# Altium footprint library VAR_LITTELFUSE_V14P.PcbLib: 1 footprints
Each footprint in its own frame and in the unit in brackets; x right, y up, seen from the top. Pads: shape width x height; smd on the part's side, far side on the other; paste and mask are expansions set on the pad; w line width, h text height; cw(c..) or ccw(c..) is an arc to the next point about the centre after c.
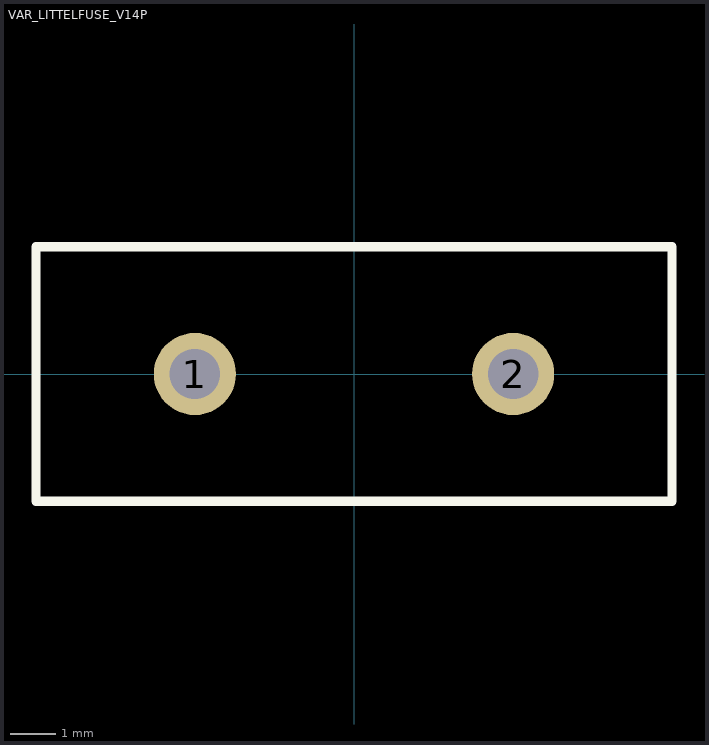
[diagram p0: the footprint, top view; thin cyan lines are the x and y axes]

## VAR_LITTELFUSE_V14P [mm] "VARISTOR 430V DISC 14MM"
height 20.5
pads (2):
  round 1.81 hole 1.11: 1(-3.5,0) 2(3.5,0)
Top Overlay:
  lines w0.2: -7,-2.8 7,-2.8 7,2 7,2.8 -7,2.8 -7,-2.8
3D body: height 20, standoff 2, extent -7,-2.8 7,2.8